# Altium footprint library Header.PcbLib: 6 footprints
Each footprint in its own frame and in the unit in brackets; x right, y up, seen from the top. Pads: shape width x height; smd on the part's side, far side on the other; paste and mask are expansions set on the pad; w line width, h text height; cw(c..) or ccw(c..) is an arc to the next point about the centre after c.
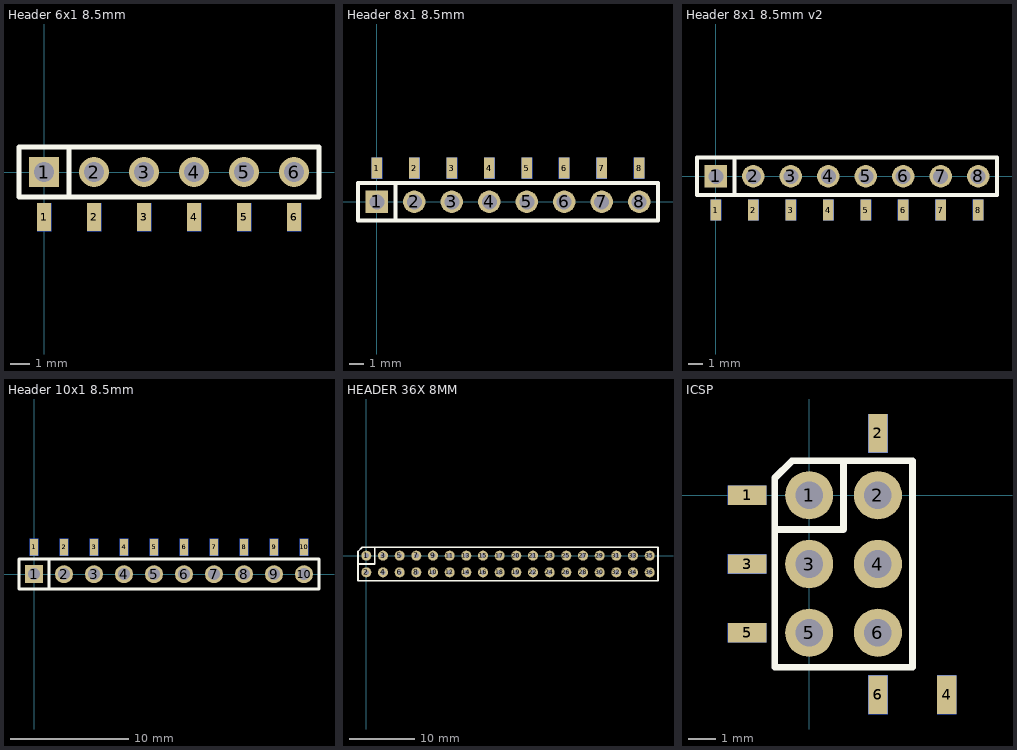
[diagram p0: the footprints below, top view; thin cyan lines are the x and y axes]

## Header 6x1 8.5mm [mil] "Stackable 6 pin header"
pads (18):
  rect 28x56 smd: 1(0,-90) 2(100,-90) 3(200,-90) 4(300,-90) 5(400,-90) 6(500,-90)
  rect 28x56 smd far side: 1(0,-90) 2(100,-90) 3(200,-90) 4(300,-90) 5(400,-90) 6(500,-90)
  rect 60x60 hole 40: 1(0,0)
  round 60 hole 40: 2(100,0) 3(200,0) 4(300,0) 5(400,0) 6(500,0)
Top Overlay:
  lines w10: 50,-50 -50,-50 -50,0 -50,50 50,50 ; 50,-50 50,50 ; 50,-50 550,-50 550,50 50,50
3D body "SIL_Socket06.stp": height 334.65, standoff -584.65, extent -49.99,-49.99 550.01,50.01

## Header 8x1 8.5mm [mil] "Stackable 8 pin header"
pads (24):
  rect 60x60 hole 40: 1(0,0)
  rect 28x56 smd: 1(0,90) 2(100,90) 3(200,90) 4(300,90) 5(400,90) 6(500,90) 7(600,90) 8(700,90)
  rect 28x56 smd far side: 1(0,90) 2(100,90) 3(200,90) 4(300,90) 5(400,90) 6(500,90) 7(600,90) 8(700,90)
  round 60 hole 40: 2(100,0) 3(200,0) 4(300,0) 5(400,0) 6(500,0) 7(600,0) 8(700,0)
Top Overlay:
  lines w10: 50,-50 50,50 ; -50,-50 -50,50 750,50 750,-50 -50,-50
3D body "SIL_Socket08_.stp": height 334.65, standoff -584.65, extent -50,-49.99 750,50.01

## Header 8x1 8.5mm v2 [mil] "Stackable 8 pin header"
pads (24):
  rect 28x56 smd: 1(0,-90) 2(100,-90) 3(200,-90) 4(300,-90) 5(400,-90) 6(500,-90) 7(600,-90) 8(700,-90)
  rect 28x56 smd far side: 1(0,-90) 2(100,-90) 3(200,-90) 4(300,-90) 5(400,-90) 6(500,-90) 7(600,-90) 8(700,-90)
  rect 60x60 hole 40: 1(0,0)
  round 60 hole 40: 2(100,0) 3(200,0) 4(300,0) 5(400,0) 6(500,0) 7(600,0) 8(700,0)
Top Overlay:
  lines w10: 50,-50 50,50 ; -50,-50 -50,50 750,50 750,-50 -50,-50
3D body "SIL_Socket08_.stp": height 334.65, standoff -584.65, extent -50,-49.99 750,50.01

## Header 10x1 8.5mm [mil] "Stackable 10 pin header"
pads (30):
  rect 60x60 hole 40: 1(0,0)
  rect 28x56 smd: 1(0,90) 2(100,90) 3(200,90) 4(300,90) 5(400,90) 6(500,90) 7(600,90) 8(700,90) 9(800,90) 10(900,90)
  rect 28x56 smd far side: 1(0,90) 2(100,90) 3(200,90) 4(300,90) 5(400,90) 6(500,90) 7(600,90) 8(700,90) 9(800,90) 10(900,90)
  round 60 hole 40: 2(100,0) 3(200,0) 4(300,0) 5(400,0) 6(500,0) 7(600,0) 8(700,0) 9(800,0) 10(900,0)
Top Overlay:
  lines w10: 50,-50 -50,-50 -50,50 50,50 ; 50,-50 950,-50 950,50 50,50 ; 50,-50 50,50
3D body "SIL_Socket10.stp": height 334.65, standoff -584.65, extent -50,-50 950,50

## HEADER 36X 8MM [mil] "Stackable 10 pin header"
pads (36):
  round 60 hole 30: 1(0,0) 2(0,-100) 3(100,0) 4(100,-100) 5(200,0) 6(200,-100) 7(300,0) 8(300,-100) 9(400,0) 10(400,-100) 11(500,0) 12(500,-100) 13(600,0) 14(600,-100) 15(700,0) 16(700,-100) 17(800,0) 18(800,-100) 19(900,-100) 20(900,0) 21(1000,0) 22(1000,-100) 23(1100,0) 24(1100,-100) 25(1200,0) 26(1200,-100) 27(1300,0) 28(1300,-100) 29(1400,0) 30(1400,-100) 31(1500,0) 32(1500,-100) 33(1600,0) 34(1600,-100) 35(1700,0) 36(1700,-100)
Top Overlay:
  lines w10: -50,-50 50,-50 50,50 ; -50,-150 -50,25 -25,50 1750,50 1750,-150 -50,-150
3D body "SIL_Socket36.stp": height 334.65, standoff -584.65, extent -50,-150 1750,50

## ICSP [mil]
pads (18):
  rect 56x28 smd: 1(-90,0) 3(-90,-100) 5(-90,-200)
  rect 56x28 smd far side: 1(-90,0) 3(-90,-100) 5(-90,-200)
  round 70 hole 40: 1(0,0) 2(100,0) 3(0,-100) 4(100,-100) 5(0,-200) 6(100,-200)
  rect 28x56 smd: 2(100,90) 4(200,-290) 6(100,-290)
  rect 28x56 smd far side: 2(100,90) 4(200,-290) 6(100,-290)
Top Overlay:
  lines w10: -50,-50 50,-50 50,50 ; -50,-250 150,-250 150,50 -25,50 -50,25 -50,-250
3D body "ICSP.stp": height 484.65, standoff -105.84, extent -49.99,-249.99 150.01,50.01